# Altium footprint library CONNECTOR.PcbLib: 1 footprints
Each footprint in its own frame and in the unit in brackets; x right, y up, seen from the top. Pads: shape width x height; smd on the part's side, far side on the other; paste and mask are expansions set on the pad; w line width, h text height; cw(c..) or ccw(c..) is an arc to the next point about the centre after c.
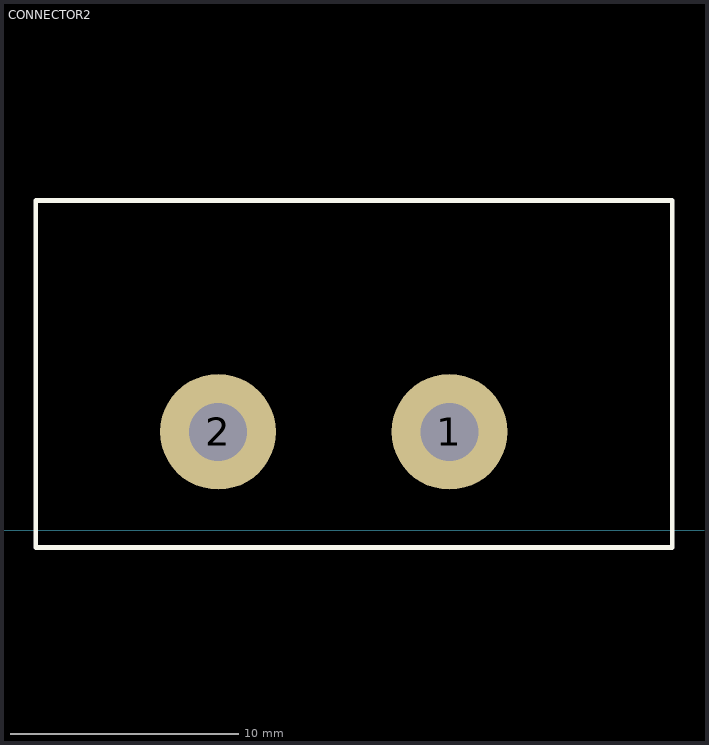
[diagram p0: the footprint, top view; thin cyan lines are the x and y axes]

## CONNECTOR2 [mil]
pads (2):
  round 200 hole 100: 1(1105,170) 2(705,170)
Top Overlay:
  lines w8: 390,-30 390,570 1490,570 1490,-30 390,-30